# EAGLE library part *154 (library digital)
74xx154: 4-to-16-line decoder
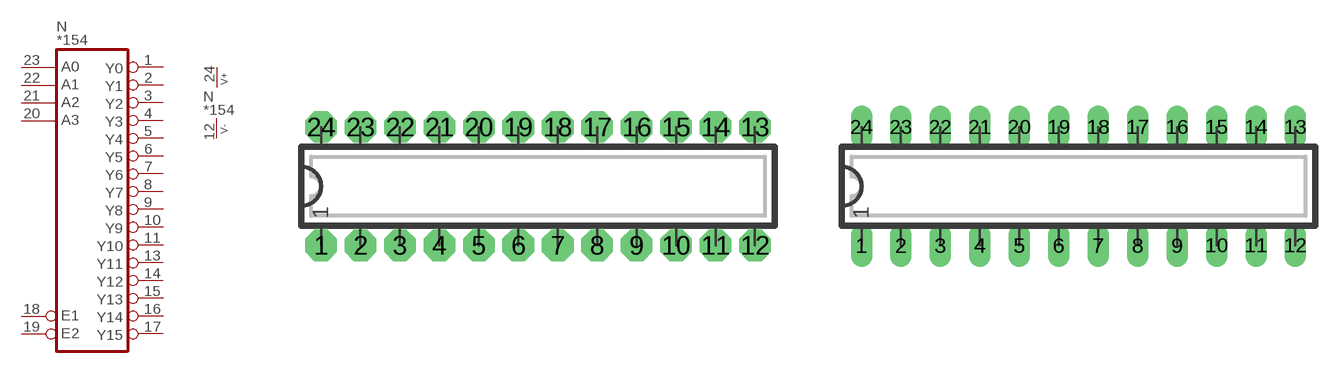
[diagram p15: symbol with the pads of DIP24N; footprints DIP24N, DIP24L]

Designator prefix N; gates  =4TO16_1 P=V+-

## 74154N, 74C154N, 74HC154N, 74HCT154N, 74LS154N  [DIP24N]
1   :Y0  out
2   :Y1  out
3   :Y2  out
4   :Y3  out
5   :Y4  out
6   :Y5  out
7   :Y6  out
8   :Y7  out
9   :Y8  out
10   :Y9  out
11   :Y10  out
12  P:V-  pwr
13   :Y11  out
14   :Y12  out
15   :Y13  out
16   :Y14  out
17   :Y15  out
18   :E1  in
19   :E2  in
20   :A3  in
21   :A2  in
22   :A1  in
23   :A0  in
24  P:V+  pwr

## 74154, 74C154, 74HC154, 74HCT154, 74LS154  [DIP24L]
Pads as for DIP24N

## 74154L, 74C154L, 74HC154L, 74HCT154L, 74LS154L  [DIP24L]
Pads as for DIP24N

## 74154R, 74C154R, 74HC154R, 74HCT154R, 74LS154R  [DIP24R]
Pads as for DIP24N

## 74HC154S, 74HCT154S  [SO24]
Pads as for DIP24N

## Footprint DIP24N (pad centres in mm)
DIP-24 Standard IC package, 24 pins
drill 0.813 pad 2.032 octagon: 1 0,0; 2 2.54,0; 3 5.08,0; 4 7.62,0; 5 10.16,0; 6 12.7,0; 7 15.24,0; 8 17.78,0; 9 20.32,0; 10 22.86,0; 11 25.4,0; 12 27.94,0; 13 27.94,7.62; 14 25.4,7.62; 15 22.86,7.62; 16 20.32,7.62; 17 17.78,7.62; 18 15.24,7.62; 19 12.7,7.62; 20 10.16,7.62; 21 7.62,7.62; 22 5.08,7.62; 23 2.54,7.62; 24 0,7.62

## Footprint DIP24L (pad centres in mm)
DIP-24, long pads Standard IC package, 24 pins
drill 0.813 pad 1.397 long: 1 0,0; 2 2.54,0; 3 5.08,0; 4 7.62,0; 5 10.16,0; 6 12.7,0; 7 15.24,0; 8 17.78,0; 9 20.32,0; 10 22.86,0; 11 25.4,0; 12 27.94,0; 13 27.94,7.62; 14 25.4,7.62; 15 22.86,7.62; 16 20.32,7.62; 17 17.78,7.62; 18 15.24,7.62; 19 12.7,7.62; 20 10.16,7.62; 21 7.62,7.62; 22 5.08,7.62; 23 2.54,7.62; 24 0,7.62

## Footprint DIP24R (pad centres in mm)
DIP-24, reduced pads Standard IC package, 24 pins
drill 0.813 pad 1.397 square: 1 0,0; 2 2.54,0; 3 5.08,0; 4 7.62,0; 5 10.16,0; 6 12.7,0; 7 15.24,0; 8 17.78,0; 9 20.32,0; 10 22.86,0; 11 25.4,0; 12 27.94,0; 13 27.94,7.62; 14 25.4,7.62; 15 22.86,7.62; 16 20.32,7.62; 17 17.78,7.62; 18 15.24,7.62; 19 12.7,7.62; 20 10.16,7.62; 21 7.62,7.62; 22 5.08,7.62; 23 2.54,7.62; 24 0,7.62

## Footprint SO24 (pad centres in mm)
SO-24, SMD SOIC IC package, 24 pins
smd 0.635 x 1.778: 1 -6.985,-2.857; 2 -5.715,-2.857; 3 -4.445,-2.857; 4 -3.175,-2.857; 5 -1.905,-2.857; 6 -0.635,-2.857; 7 0.635,-2.857; 8 1.905,-2.857; 9 3.175,-2.857; 10 4.445,-2.857; 11 5.715,-2.857; 12 6.985,-2.857; 13 6.985,2.857; 14 5.715,2.857; 15 4.445,2.857; 16 3.175,2.857; 17 1.905,2.857; 18 0.635,2.857; 19 -0.635,2.857; 20 -1.905,2.857; 21 -3.175,2.857; 22 -4.445,2.857; 23 -5.715,2.857; 24 -6.985,2.857